# EAGLE library part MOLEX_SL_09 (library molex-sl-connectors_jw)
Molex SL-Series PCB Header, 9-Pos, 0.1" (2.54mm) Centers
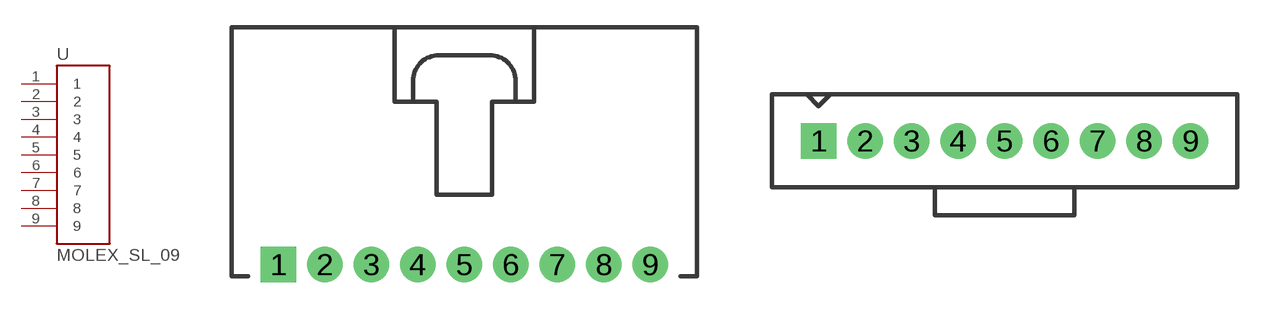
[diagram p3: symbol with the pads of SL_70553_9; footprints SL_70553_9, SL_70543_9]

Designator prefix -

## MOLEX_SL_09-70553  [SL_70553_9]
1  1
2  2
3  3
4  4
5  5
6  6
7  7
8  8
9  9

## MOLEX_SL_09-70543-74095  [SL_70543_9]
Pads as for SL_70553_9

## MOLEX_SL_09-70541-70545  [SL_70541_9]
Pads as for SL_70553_9

## MOLEX_SL_09-70551  [SL_70551_9]
Pads as for SL_70553_9

## MOLEX_SL_09-70555  [SL_70555_9]
Pads as for SL_70553_9

## MOLEX_SL_09-70634  [SL_70634_9]
Pads as for SL_70553_9

## MOLEX_SL_09-74099  [SL_74099_9]
Pads as for SL_70553_9

## MOLEX_SL_09-87898  [SL_87898_9]
Pads as for SL_70553_9

## Footprint SL_70553_9 (pad centres in mm)
Right-Angle Header w/ Latch (no pegs) 70553-0008 70553-0043 70553-0113 70553-0148 70553-5008 70553-5043
drill 1.1 pad 1.93 square: 1 -10.16,-5.08
drill 1.1 pad 1.93: 2 -7.62,-5.08; 3 -5.08,-5.08; 4 -2.54,-5.08; 5 0,-5.08; 6 2.54,-5.08; 7 5.08,-5.08; 8 7.62,-5.08; 9 10.16,-5.08

## Footprint SL_70543_9 (pad centres in mm)
Vertical Header w/ Latch & Optional Compliant Pins (no pegs) Normal Pins: 70543-0008 70543-0043 70543-0078 70543-0113 70543-0148 70543-0172 70543-0207 70543-0255 70543-0279 70543-0303 Compliant Pins 74095-0009 74095-0039 74095-0069 74095-1039 74095-1069
drill 1.1 pad 1.93 square: 1 -10.16,1.27
drill 1.1 pad 1.93: 2 -7.62,1.27; 3 -5.08,1.27; 4 -2.54,1.27; 5 0,1.27; 6 2.54,1.27; 7 5.08,1.27; 8 7.62,1.27; 9 10.16,1.27

## Footprint SL_70541_9 (pad centres in mm)
Vertical Header w/ Latch & Pegs With Split Pegs: 70541-0008 70541-0043 70541-0078 With Tri-Pegs: 70545-0008 70545-0043 70545-0078 70545-0148 70545-0183
drill 1.1 pad 1.93 square: 1 -10.16,1.27
drill 1.1 pad 1.93: 2 -7.62,1.27; 3 -5.08,1.27; 4 -2.54,1.27; 5 0,1.27; 6 2.54,1.27; 7 5.08,1.27; 8 7.62,1.27; 9 10.16,1.27
hole 3.404 at -14.224,0.508
hole 3.404 at 14.224,0.508

## Footprint SL_70551_9 (pad centres in mm)
Right-Angle Header w/ Latch & Split Pegs 70551-0008 70551-0043 70551-0078
drill 1.1 pad 1.93 square: 1 -10.16,-5.08
drill 1.1 pad 1.93: 2 -7.62,-5.08; 3 -5.08,-5.08; 4 -2.54,-5.08; 5 0,-5.08; 6 2.54,-5.08; 7 5.08,-5.08; 8 7.62,-5.08; 9 10.16,-5.08
hole 3.404 at -11.43,3.556
hole 3.404 at 11.43,3.556

## Footprint SL_70555_9 (pad centres in mm)
Right-Angle Header w/ Latch & Tri-Pegs 70555-0008 70555-0043 70555-0078 70555-5008
drill 1.1 pad 1.93 square: 1 -10.16,-5.08
drill 1.1 pad 1.93: 2 -7.62,-5.08; 3 -5.08,-5.08; 4 -2.54,-5.08; 5 0,-5.08; 6 2.54,-5.08; 7 5.08,-5.08; 8 7.62,-5.08; 9 10.16,-5.08
hole 3.404 at -11.557,3.556
hole 3.404 at 11.557,3.556

## Footprint SL_70634_9 (pad centres in mm)
SMD Right-Angle Header w/ Latch & PCB Pegs 70634-0008 70634-0043 70634-0078 70634-0113 70634-0148 70634-0183 70634-0209
smd 1.651 x 5.334: 1 -10.16,-7.62; 2 -7.62,-7.62; 3 -5.08,-7.62; 4 -2.54,-7.62; 5 0,-7.62; 6 2.54,-7.62; 7 5.08,-7.62; 8 7.62,-7.62; 9 10.16,-7.62
hole 3.404 at -11.582,3.048
hole 3.404 at 11.557,3.099

## Footprint SL_74099_9 (pad centres in mm)
SMD Vertical Header w/ Latch & PCB Pegs Package also includes Pick-N-Place Cap 74099-0609 74099-0629 74099-0649
smd 1.27 x 3.175: 1 -10.16,-2.108; 2 -7.62,2.108; 3 -5.08,-2.108; 4 -2.54,2.108; 5 0,-2.108; 6 2.54,2.108; 7 5.08,-2.108; 8 7.62,2.108; 9 10.16,-2.108

## Footprint SL_87898_9 (pad centres in mm)
SMD Vertical Header (no latch or pegs) Package also includes Pick-N-Place Cap Tube packaging w/o Pick-N-Place Cap: 87898-0921 87898-0922 87898-0924 87898-0925 87898-0926 Tube packaging w/ Pick-N-Place Cap: 87898-0931 87898-0932 87898-0934 87898-0935 87898-0936 Tape & Reel packaging w/ Pick-N-Place Cap: 87898-0951 87898-0952 87898-0954 87898-0955 87898-0956
smd 1.27 x 2.946: 1 -10.16,1.803; 2 -7.62,-1.803; 3 -5.08,1.803; 4 -2.54,-1.803; 5 0,1.803; 6 2.54,-1.803; 7 5.08,1.803; 8 7.62,-1.803; 9 10.16,1.803